# Altium schematic symbol library CONN6.SCHLIB: 1 symbol
Pins are listed as number, name and electrical type; pins without a type are passive.

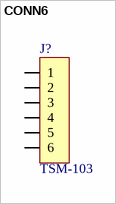
[diagram p0: symbol CONN6]

## CONN6
designator J?, comment TSM-103
footprint SAM6
pins: 1, 2, 3, 4, 5, 6